# Altium schematic symbol library Components - 23.04.26 - 19.49.SchLib: 1 symbol
Pins are listed as number, name and electrical type; pins without a type are passive.

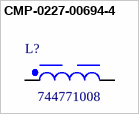
[diagram p0: symbol CMP-0227-00694-4]

## CMP-0227-00694-4
designator L?, comment 744771008
Power Inductor, SMT, 1260, 8.2 Uh, 6.25 A, .02 Ohm, Fixed, We-pd Series; Tolerance: 20%; Shielding: Shielded; Inductance: 8.2µH; RMS Current (Irms): 6.25A; Self Resonant Frequency: 25MHz; DC Resistance (DCR): 15.5mΩ; Core Material: Ferrite; Series Resistance: 20mΩ; Current Rating: 6.2A; Test Frequency: 1kHz; Mount: Surface Mount; Weight: 4.535924g; Width: 12mm; Depth: 12mm; Composition: Wirewound; Height - Seated (Max): 5.9944mm; Termination: SMD/SMT; Height: 6mm; Ambient Temperature Range High: 85°C; Case/Package: Nonstandard; Number of Pins: 2; Lead Free: Lead Free; Max Operating Temperature: 125°C; RoHS: Compliant; Min Operating Temperature: -40°C; Inductance Tolerance: 20%; Ambient Temperature Range Low: -40°C; Max DC Current: 6.25A; Length: 12mm; Saturation Current: 6.25A
footprint WE-PD_1260 (SMT Shielded Power Inductor, 2-leads, body 12x12mm)
pins: 1, 2